# Altium footprint library inductores.PcbLib: 2 footprints
Each footprint in its own frame and in the unit in brackets; x right, y up, seen from the top. Pads: shape width x height; smd on the part's side, far side on the other; paste and mask are expansions set on the pad; w line width, h text height; cw(c..) or ccw(c..) is an arc to the next point about the centre after c.
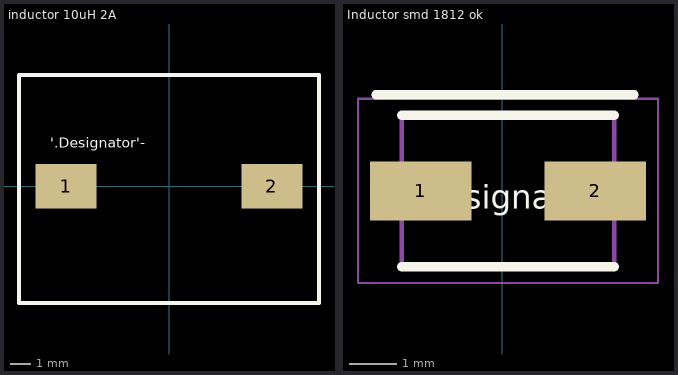
[diagram p0: the footprints below, top view; thin cyan lines are the x and y axes]

## inductor 10uH 2A [mm]
pads (2):
  rect 3x2.18 smd: 1(-5.05,0) 2(5.05,0)
Top Overlay:
  lines w0.2: -7.366,-5.715 -7.366,5.461 7.366,5.461 7.366,-5.715 -7.366,-5.715
  text "'.Designator'-" at -5.842,1.905 h0.5
Mechanical 29 (Mech29):
  lines w0.2: -7.366,-5.715 7.366,-5.715 7.366,5.461 -7.366,5.461 -7.366,-5.715
3D body "srr1005-100m.stp": height 5.21, standoff 0.01, extent -6.223,-5.227 6.477,4.773

## Inductor smd 1812 ok [mm]
pads (2):
  rect 2.15x1.25 smd: 1(-1.723,-4.064) 2(1.977,-4.064)
Top Overlay:
  lines w0.2: -2.667,-2.032 2.794,-2.032 ; -2.123,-5.664 2.377,-5.664 ; -2.123,-2.464 2.377,-2.464
  text "'.Designator'-" at -2.159,-4.445 h0.5
Mechanical 13:
  lines w0.1: -2.123,-5.664 2.377,-5.664 2.377,-2.464 -2.123,-2.464 -2.123,-5.664
Mechanical 15:
  lines w0.05: -3.048,-6.014 3.302,-6.014 3.302,-2.114 -3.048,-2.114 -3.048,-6.014
Mechanical 29 (Mech29):
  lines w0.2: -2.667,-2.032 2.794,-2.032
3D body "CM453232-100KL.stp": height 3.4, standoff 0, extent -2.123,-5.664 2.377,-2.464